# Altium footprint library Capacitors.PcbLib: 106 footprints (part 6 of 7)
Each footprint in its own frame and in the unit in brackets; x right, y up, seen from the top. Pads: shape width x height; smd on the part's side, far side on the other; paste and mask are expansions set on the pad; w line width, h text height; cw(c..) or ccw(c..) is an arc to the next point about the centre after c.
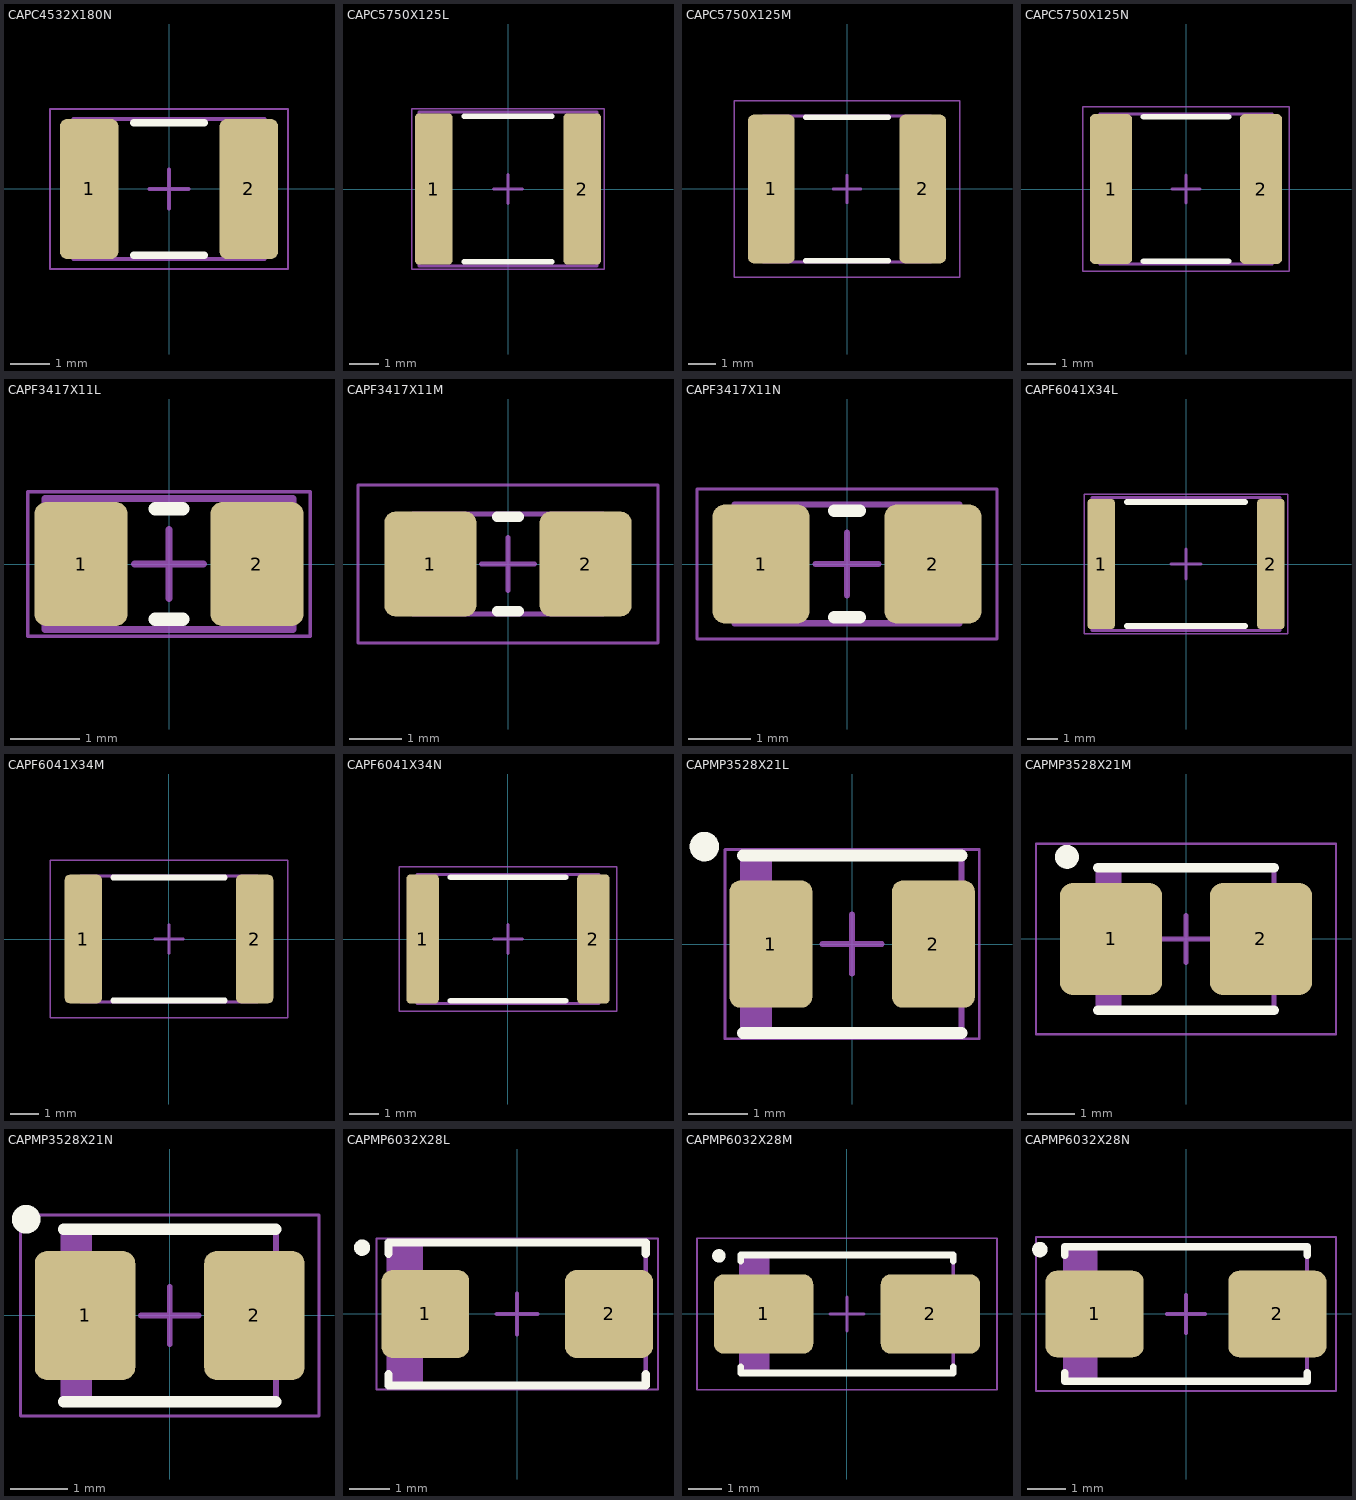
[diagram p5: the footprints below, top view; thin cyan lines are the x and y axes]

## CAPC4532X180N [mm] "Chip Capacitor, EIA 1210, Metric 3225, Body 4.50x3.20mm, IPC Medium Density"
height 1.8
pads (2):
  rrect25% 1.5x3.6 smd paste+0 mask+0.05: 1(-2.05,0) 2(2.05,0)
Top Overlay:
  lines w0.2: -0.9,-1.7 0.9,-1.7 ; -0.9,1.7 0.9,1.7
Top Component Outline:
  lines w0.1: -2.45,-1.8 2.45,-1.8 2.45,1.8 -2.45,1.8 -2.45,-1.8
Top Courtyard:
  lines w0.05: -3.05,-2.05 3.05,-2.05 3.05,2.05 -3.05,2.05 -3.05,-2.05
Top Component Center:
  lines w0.1: -0.5,0 0.5,0 ; 0,-0.5 0,0.5
Top Designator:
  text ".Designator" at -4.04,-0.476 h2
Top Assembly:
  lines w0.1: -2.45,-1.8 2.45,-1.8 2.45,1.8 -2.45,1.8 -2.45,-1.8
  text ".Designator" at -4.04,-0.476 h2
3D body "CAPC4532X180N.step": height 1.8, standoff 0, extent -2.45,-1.8 2.45,1.8

## CAPC5750X125L [mm] "Chip Capacitor, EIA 2220, Metric 5750, Body 5.70x5.00mm, IPC High Density"
height 1.25
pads (2):
  rrect25% 1.3x5.2 smd paste+0 mask+0.05: 1(-2.55,0) 2(2.55,0)
Top Overlay:
  lines w0.2: -1.5,-2.5 1.5,-2.5 ; -1.5,2.5 1.5,2.5
Top Component Outline:
  lines w0.1: -3.05,-2.65 3.05,-2.65 3.05,2.65 -3.05,2.65 -3.05,-2.65
Top Courtyard:
  lines w0.05: -3.3,-2.75 3.3,-2.75 3.3,2.75 -3.3,2.75 -3.3,-2.75
Top Component Center:
  lines w0.1: -0.5,0 0.5,0 ; 0,-0.5 0,0.5
Top Designator:
  text ".Designator" at -4.04,-0.476 h2
Top Assembly:
  lines w0.1: -3.05,-2.65 3.05,-2.65 3.05,2.65 -3.05,2.65 -3.05,-2.65
  text ".Designator" at -4.04,-0.476 h2
3D body "CAPC5750X125N.step": height 1.25, standoff 0, extent -3.05,-2.65 3.05,2.65

## CAPC5750X125M [mm] "Chip Capacitor, EIA 2220, Metric 5750, Body 5.70x5.00mm, IPC Low Density"
height 1.25
pads (2):
  rrect25% 1.7x5.4 smd paste+0 mask+0.05: 1(-2.75,0) 2(2.75,0)
Top Overlay:
  lines w0.2: -1.5,-2.6 1.5,-2.6 ; -1.5,2.6 1.5,2.6
Top Component Outline:
  lines w0.1: -3.05,-2.65 3.05,-2.65 3.05,2.65 -3.05,2.65 -3.05,-2.65
Top Courtyard:
  lines w0.05: -4.1,-3.2 4.1,-3.2 4.1,3.2 -4.1,3.2 -4.1,-3.2
Top Component Center:
  lines w0.1: -0.5,0 0.5,0 ; 0,-0.5 0,0.5
Top Designator:
  text ".Designator" at -4.04,-0.476 h2
Top Assembly:
  lines w0.1: -3.05,-2.65 3.05,-2.65 3.05,2.65 -3.05,2.65 -3.05,-2.65
  text ".Designator" at -4.04,-0.476 h2
3D body "CAPC5750X125N.step": height 1.25, standoff 0, extent -3.05,-2.65 3.05,2.65

## CAPC5750X125N [mm] "Chip Capacitor, EIA 2220, Metric 5750, Body 5.70x5.00mm, IPC Medium Density"
height 1.25
pads (2):
  rrect25% 1.5x5.3 smd paste+0 mask+0.05: 1(-2.65,0) 2(2.65,0)
Top Overlay:
  lines w0.2: -1.5,-2.55 1.5,-2.55 ; -1.5,2.55 1.5,2.55
Top Component Outline:
  lines w0.1: -3.05,-2.65 3.05,-2.65 3.05,2.65 -3.05,2.65 -3.05,-2.65
Top Courtyard:
  lines w0.05: -3.65,-2.9 -3.65,2.9 3.65,2.9 3.65,-2.9 -3.65,-2.9
Top Component Center:
  lines w0.1: -0.5,0 0.5,0 ; 0,-0.5 0,0.5
Top Designator:
  text ".Designator" at -4.04,-0.476 h2
Top Assembly:
  lines w0.1: -3.05,-2.65 -3.05,2.65 3.05,2.65 3.05,-2.65 -3.05,-2.65
  text ".Designator" at -4.04,-0.476 h2
3D body "CAPC5750X125N.step": height 1.25, standoff 0, extent -3.05,-2.65 3.05,2.65

## CAPF3417X11L [mm] "Film Capacitor, 2-Leads, Body 3.40x1.70mm, IPC High Density"
height 1.1
pads (2):
  rrect25% 1.35x1.8 smd paste+0 mask+0.05: 1(-1.275,0) 2(1.275,0)
Top Overlay:
  lines w0.2: -0.2,-0.8 0.2,-0.8 ; -0.2,0.8 0.2,0.8
Top Component Outline:
  lines w0.1: -1.8,-0.95 1.8,-0.95 1.8,0.95 -1.8,0.95 -1.8,-0.95
Top Courtyard:
  lines w0.05: -2.05,-1.05 2.05,-1.05 2.05,1.05 -2.05,1.05 -2.05,-1.05
Top Component Center:
  lines w0.1: -0.5,0 0.5,0 ; 0,-0.5 0,0.5
Top Designator:
  text ".Designator" at -4.04,-0.476 h2
Top Assembly:
  lines w0.1: -1.8,-0.95 1.8,-0.95 1.8,0.95 -1.8,0.95 -1.8,-0.95
  text ".Designator" at -4.04,-0.476 h2
3D body "CAPF3417X11N.step": height 1.1, standoff 0, extent -1.8,-0.95 1.8,0.95

## CAPF3417X11M [mm] "Film Capacitor, 2-Leads, Body 3.40x1.70mm, IPC Low Density"
height 1.1
pads (2):
  rrect25% 1.75x2 smd paste+0 mask+0.05: 1(-1.475,0) 2(1.475,0)
Top Overlay:
  lines w0.2: -0.2,-0.9 0.2,-0.9 ; -0.2,0.9 0.2,0.9
Top Component Outline:
  lines w0.1: -1.8,-0.95 1.8,-0.95 1.8,0.95 -1.8,0.95 -1.8,-0.95
Top Courtyard:
  lines w0.05: -2.85,-1.5 2.85,-1.5 2.85,1.5 -2.85,1.5 -2.85,-1.5
Top Component Center:
  lines w0.1: -0.5,0 0.5,0 ; 0,-0.5 0,0.5
Top Designator:
  text ".Designator" at -4.04,-0.476 h2
Top Assembly:
  lines w0.1: -1.8,-0.95 1.8,-0.95 1.8,0.95 -1.8,0.95 -1.8,-0.95
  text ".Designator" at -4.04,-0.476 h2
3D body "CAPF3417X11N.step": height 1.1, standoff 0, extent -1.8,-0.95 1.8,0.95

## CAPF3417X11N [mm] "Film Capacitor, 2-Leads, Body 3.40x1.70mm, IPC Medium Density"
height 1.1
pads (2):
  rrect25% 1.55x1.9 smd paste+0 mask+0.05: 1(-1.375,0) 2(1.375,0)
Top Overlay:
  lines w0.2: -0.2,-0.85 0.2,-0.85 ; -0.2,0.85 0.2,0.85
Top Component Outline:
  lines w0.1: -1.8,-0.95 -1.8,0.95 1.8,0.95 1.8,-0.95 -1.8,-0.95
Top Courtyard:
  lines w0.05: -2.4,-1.2 -2.4,1.2 2.4,1.2 2.4,-1.2 -2.4,-1.2
Top Component Center:
  lines w0.1: -0.5,0 0.5,0 ; 0,-0.5 0,0.5
Top Designator:
  text ".Designator" at -4.04,-0.476 h2
Top Assembly:
  lines w0.1: -1.8,-0.95 -1.8,0.95 1.8,0.95 1.8,-0.95 -1.8,-0.95
  text ".Designator" at -4.04,-0.476 h2
3D body "CAPF3417X11N.step": height 1.1, standoff 0, extent -1.8,-0.95 1.8,0.95

## CAPF6041X34L [mm] "Film Capacitor, 2-Leads, Body 6.00x4.10mm, IPC High Density"
height 3.4
pads (2):
  rrect25% 0.9x4.3 smd paste+0 mask+0.05: 1(-2.8,0) 2(2.8,0)
Top Overlay:
  lines w0.2: -1.95,-2.05 1.95,-2.05 ; -1.95,2.05 1.95,2.05
Top Component Outline:
  lines w0.1: -3.1,-2.2 -3.1,2.2 3.1,2.2 3.1,-2.2 -3.1,-2.2
Top Courtyard:
  lines w0.05: -3.35,-2.3 3.35,-2.3 3.35,2.3 -3.35,2.3 -3.35,-2.3
Top Component Center:
  lines w0.1: -0.5,0 0.5,0 ; 0,-0.5 0,0.5
Top Designator:
  text ".Designator" at -4.04,-0.476 h2
Top Assembly:
  lines w0.1: -3.1,-2.2 3.1,-2.2 3.1,2.2 -3.1,2.2 -3.1,-2.2
  text ".Designator" at -4.04,-0.476 h2
3D body "CAPF_PANASONIC_ECHU1683GC9.step": height 3.2, standoff 0, extent -3,-2.05 3,2.05

## CAPF6041X34M [mm] "Film Capacitor, 2-Leads, Body 6.00x4.10mm, IPC Low Density"
height 3.4
pads (2):
  rrect25% 1.3x4.5 smd paste+0 mask+0.05: 1(-3,0) 2(3,0)
Top Overlay:
  lines w0.2: -1.95,-2.15 1.95,-2.15 ; -1.95,2.15 1.95,2.15
Top Component Outline:
  lines w0.1: -3.1,-2.2 -3.1,2.2 3.1,2.2 3.1,-2.2 -3.1,-2.2
Top Courtyard:
  lines w0.05: -4.15,-2.75 4.15,-2.75 4.15,2.75 -4.15,2.75 -4.15,-2.75
Top Component Center:
  lines w0.1: -0.5,0 0.5,0 ; 0,-0.5 0,0.5
Top Designator:
  text ".Designator" at -4.04,-0.476 h2
Top Assembly:
  lines w0.1: -3.1,-2.2 3.1,-2.2 3.1,2.2 -3.1,2.2 -3.1,-2.2
  text ".Designator" at -4.04,-0.476 h2
3D body "CAPF_PANASONIC_ECHU1683GC9.step": height 3.2, standoff 0, extent -3,-2.05 3,2.05

## CAPF6041X34N [mm] "Film Capacitor, 2-Leads, Body 6.00x4.10mm, IPC Medium Density"
height 3.4
pads (2):
  rrect25% 1.1x4.4 smd paste+0 mask+0.05: 1(-2.9,0) 2(2.9,0)
Top Overlay:
  lines w0.2: -1.95,-2.1 1.95,-2.1 ; -1.95,2.1 1.95,2.1
Top Component Outline:
  lines w0.1: -3.1,-2.2 -3.1,2.2 3.1,2.2 3.1,-2.2 -3.1,-2.2
Top Courtyard:
  lines w0.05: -3.7,-2.45 -3.7,2.45 3.7,2.45 3.7,-2.45 -3.7,-2.45
Top Component Center:
  lines w0.1: -0.5,0 0.5,0 ; 0,-0.5 0,0.5
Top Designator:
  text ".Designator" at -4.04,-0.476 h2
Top Assembly:
  lines w0.1: -3.1,-2.2 -3.1,2.2 3.1,2.2 3.1,-2.2 -3.1,-2.2
  text ".Designator" at -4.04,-0.476 h2
3D body "CAPF_PANASONIC_ECHU1683GC9.step": height 3.2, standoff 0, extent -3,-2.05 3,2.05

## CAPMP3528X21L [mm] "Molded Capacitor, 2-Leads, Body 3.50x2.80mm, IPC High Density"
height 2.1
pads (2):
  rrect25% 1.4x2.15 smd paste+0 mask+0.05: 1(-1.375,0) 2(1.375,0)
Top Overlay:
  circle w0.25: c-2.5,1.65 r0.125
  lines w0.2: -1.85,-1.5 1.85,-1.5 ; -1.85,1.5 1.85,1.5
Top Component Outline:
  lines w0.1: -1.85,-1.5 -1.85,1.5 1.85,1.5 1.85,-1.5 -1.85,-1.5
Top Courtyard:
  lines w0.05: -2.15,-1.6 -2.15,1.6 2.15,1.6 2.15,-1.6 -2.15,-1.6
Top Component Center:
  lines w0.1: -0.5,0 0.5,0 ; 0,-0.5 0,0.5
Top Designator:
  text ".Designator" at -4.04,-0.476 h2
Top Assembly:
  rectangle: -1.85,-1.5 -1.352,1.5
  lines w0.1: -1.85,-1.5 -1.85,1.5 1.85,1.5 1.85,-1.5 -1.85,-1.5
  text ".Designator" at -4.04,-0.476 h2
3D body "CAPMP_KEMET_3528X21N.step": height 2.1, standoff 0, extent -1.85,-1.5 1.85,1.5

## CAPMP3528X21M [mm] "Molded Capacitor, 2-Leads, Body 3.50x2.80mm, IPC Low Density"
height 2.1
pads (2):
  rrect25% 2.15x2.35 smd paste+0 mask+0.05: 1(-1.575,0) 2(1.575,0)
Top Overlay:
  circle w0.25: c-2.5,1.725 r0.125
  lines w0.2: -1.85,-1.5 1.85,-1.5 ; -1.85,1.5 1.85,1.5
Top Component Outline:
  lines w0.1: -1.85,-1.5 1.85,-1.5 1.85,1.5 -1.85,1.5 -1.85,-1.5
Top Courtyard:
  lines w0.05: -3.15,-2 3.15,-2 3.15,2 -3.15,2 -3.15,-2
Top Component Center:
  lines w0.1: -0.5,0 0.5,0 ; 0,-0.5 0,0.5
Top Designator:
  text ".Designator" at -4.04,-0.476 h2
Top Assembly:
  rectangle: -1.85,-1.5 -1.352,1.5
  lines w0.1: -1.85,-1.5 1.85,-1.5 1.85,1.5 -1.85,1.5 -1.85,-1.5
  text ".Designator" at -4.04,-0.476 h2
3D body "CAPMP_KEMET_3528X21N.step": height 2.1, standoff 0, extent -1.85,-1.5 1.85,1.5

## CAPMP3528X21N [mm] "Molded Capacitor, 2-Leads, Body 3.50x2.80mm, IPC Medium Density"
height 2.1
pads (2):
  rrect25% 1.75x2.25 smd paste+0 mask+0.05: 1(-1.475,0) 2(1.475,0)
Top Overlay:
  circle w0.25: c-2.5,1.675 r0.125
  lines w0.2: -1.85,-1.5 1.85,-1.5 ; -1.85,1.5 1.85,1.5
Top Component Outline:
  lines w0.1: -1.85,-1.5 1.85,-1.5 1.85,1.5 -1.85,1.5 -1.85,-1.5
Top Courtyard:
  lines w0.05: -2.6,-1.75 2.6,-1.75 2.6,1.75 -2.6,1.75 -2.6,-1.75
Top Component Center:
  lines w0.1: -0.5,0 0.5,0 ; 0,-0.5 0,0.5
Top Designator:
  text ".Designator" at -4.04,-0.476 h2
Top Assembly:
  rectangle: -1.85,-1.5 -1.352,1.5
  lines w0.1: -1.85,-1.5 1.85,-1.5 1.85,1.5 -1.85,1.5 -1.85,-1.5
  text ".Designator" at -4.04,-0.476 h2
3D body "CAPMP_KEMET_3528X21N.step": height 2.1, standoff 0, extent -1.85,-1.5 1.85,1.5

## CAPMP6032X28L [mm] "Molded Capacitor, 2-Leads, Body 6.00x3.20mm, IPC High Density"
height 2.8
pads (2):
  rrect25% 2.15x2.15 smd paste+0 mask+0.05: 1(-2.25,0) 2(2.25,0)
Top Overlay:
  circle w0.2: c-3.8,1.625 r0.1
  lines w0.2: -3.15,-1.475 -3.15,-1.75 3.15,-1.75 3.15,-1.475 ; -3.15,1.475 -3.15,1.75 3.15,1.75 3.15,1.475
Top Component Outline:
  rectangle: -3.15,-1.75 -2.303,1.75
  lines w0.1: -3.15,-1.75 3.15,-1.75 3.15,1.75 -3.15,1.75 -3.15,-1.75
Top Courtyard:
  lines w0.05: -3.45,-1.85 3.45,-1.85 3.45,1.85 -3.45,1.85 -3.45,-1.85
Top Component Center:
  lines w0.1: -0.5,0 0.5,0 ; 0,-0.5 0,0.5
Top Designator:
  text ".Designator" at -4.04,-0.476 h2
Top Assembly:
  rectangle: -3.15,-1.75 -2.303,1.75
  lines w0.1: -3.15,-1.75 3.15,-1.75 3.15,1.75 -3.15,1.75 -3.15,-1.75
  text ".Designator" at -4.04,-0.476 h2
3D body "CAPMP_KEMET_6032X28N.step": height 2.81, standoff 0, extent -3.15,-1.75 3.15,1.75

## CAPMP6032X28M [mm] "Molded Capacitor, 2-Leads, Body 6.00x3.20mm, IPC Low Density"
height 2.8
pads (2):
  rrect25% 2.95x2.35 smd paste+0 mask+0.05: 1(-2.475,0) 2(2.475,0)
Top Overlay:
  circle w0.2: c-3.8,1.725 r0.1
  lines w0.2: -3.15,-1.575 -3.15,-1.75 3.15,-1.75 3.15,-1.575 ; -3.15,1.575 -3.15,1.75 3.15,1.75 3.15,1.575
Top Component Outline:
  rectangle: -3.15,-1.75 -2.303,1.75
  lines w0.1: -3.15,-1.75 -3.15,1.75 3.15,1.75 3.15,-1.75 -3.15,-1.75
Top Courtyard:
  lines w0.05: -4.45,-2.25 4.45,-2.25 4.45,2.25 -4.45,2.25 -4.45,-2.25
Top Component Center:
  lines w0.1: -0.5,0 0.5,0 ; 0,-0.5 0,0.5
Top Designator:
  text ".Designator" at -4.04,-0.476 h2
Top Assembly:
  rectangle: -3.15,-1.75 -2.303,1.75
  lines w0.1: -3.15,-1.75 3.15,-1.75 3.15,1.75 -3.15,1.75 -3.15,-1.75
  text ".Designator" at -4.04,-0.476 h2
3D body "CAPMP_KEMET_6032X28N.step": height 2.81, standoff 0, extent -3.15,-1.75 3.15,1.75

## CAPMP6032X28N [mm] "Molded Capacitor, 2-Leads, Body 6.00x3.20mm, IPC Medium Density"
height 2.8
pads (2):
  rrect25% 2.55x2.25 smd paste+0 mask+0.05: 1(-2.375,0) 2(2.375,0)
Top Overlay:
  circle w0.2: c-3.8,1.675 r0.1
  lines w0.2: -3.15,-1.525 -3.15,-1.75 3.15,-1.75 3.15,-1.525 ; -3.15,1.525 -3.15,1.75 3.15,1.75 3.15,1.525
Top Component Outline:
  rectangle: -3.15,-1.75 -2.303,1.75
  lines w0.1: -3.15,-1.75 3.15,-1.75 3.15,1.75 -3.15,1.75 -3.15,-1.75
Top Courtyard:
  lines w0.05: -3.9,-2 3.9,-2 3.9,2 -3.9,2 -3.9,-2
Top Component Center:
  lines w0.1: -0.5,0 0.5,0 ; 0,-0.5 0,0.5
Top Designator:
  text ".Designator" at -4.04,-0.476 h2
Top Assembly:
  rectangle: -3.15,-1.75 -2.303,1.75
  lines w0.1: -3.15,-1.75 3.15,-1.75 3.15,1.75 -3.15,1.75 -3.15,-1.75
  text ".Designator" at -4.04,-0.476 h2
3D body "CAPMP_KEMET_6032X28N.step": height 2.81, standoff 0, extent -3.15,-1.75 3.15,1.75